# Altium footprint library USB4155-03-C.PcbLib: 1 footprints
Each footprint in its own frame and in the unit in brackets; x right, y up, seen from the top. Pads: shape width x height; smd on the part's side, far side on the other; paste and mask are expansions set on the pad; w line width, h text height; cw(c..) or ccw(c..) is an arc to the next point about the centre after c.
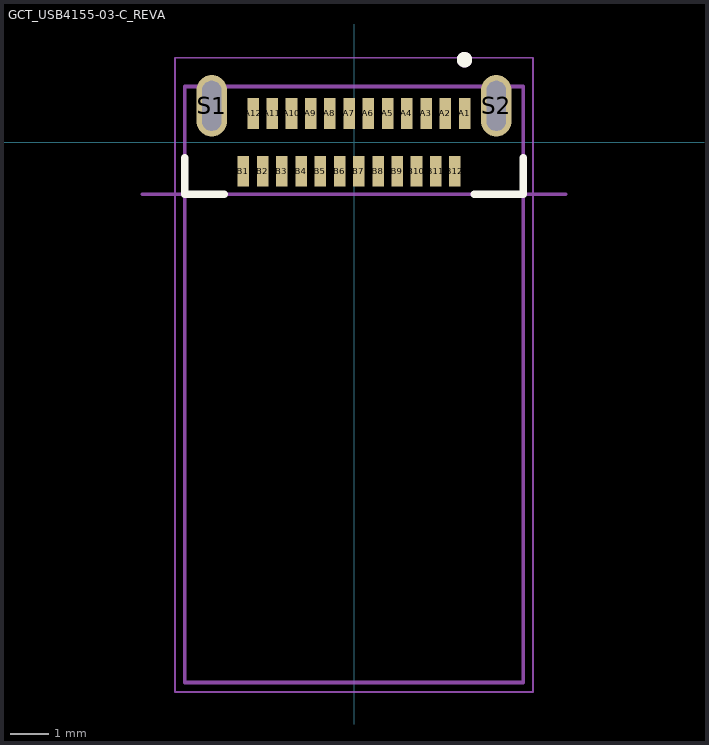
[diagram p0: the footprint, top view; thin cyan lines are the x and y axes]

## GCT_USB4155-03-C_REVA [mm]
pads (26):
  rect 0.3x0.8 smd: A1(2.875,0.75) A2(2.375,0.75) A3(1.875,0.75) A4(1.375,0.75) A5(0.875,0.75) A6(0.375,0.75) A7(-0.125,0.75) A8(-0.625,0.75) A9(-1.125,0.75) A10(-1.625,0.75) A11(-2.125,0.75) A12(-2.625,0.75) B1(-2.875,-0.75) B2(-2.375,-0.75) B3(-1.875,-0.75) B4(-1.375,-0.75) B5(-0.875,-0.75) B6(-0.375,-0.75) B7(0.125,-0.75) B8(0.625,-0.75) B9(1.125,-0.75) B10(1.625,-0.75) B11(2.125,-0.75) B12(2.625,-0.75)
  oval 0.8x1.6 hole 0.5 slot 1.3 at 90 deg mask+0: S1(-3.7,0.95) S2(3.7,0.95)
Top Overlay:
  circle w0.2: c2.875,2.15 r0.1
  lines w0.2: -4.4,-0.4 -4.4,-1.35 -3.375,-1.35 ; 3.125,-1.35 4.4,-1.35 4.4,-0.4
Mechanical 13:
  circle w0.2: c2.875,2.15 r0.1
  lines w0.1: -5.5,-1.35 5.5,-1.35 ; -4.4,-14.05 4.4,-14.05 4.4,1.45 -4.4,1.45 -4.4,-14.05
  text "PCB Edge" at 5,-1.1 h0.81
Mechanical 15:
  lines w0.05: -4.65,-14.3 4.65,-14.3 4.65,2.2 -4.65,2.2 -4.65,-14.3